# Altium schematic symbol library General_Lib.SchLib: 23 symbols
Pins are listed as number, name and electrical type; pins without a type are passive.

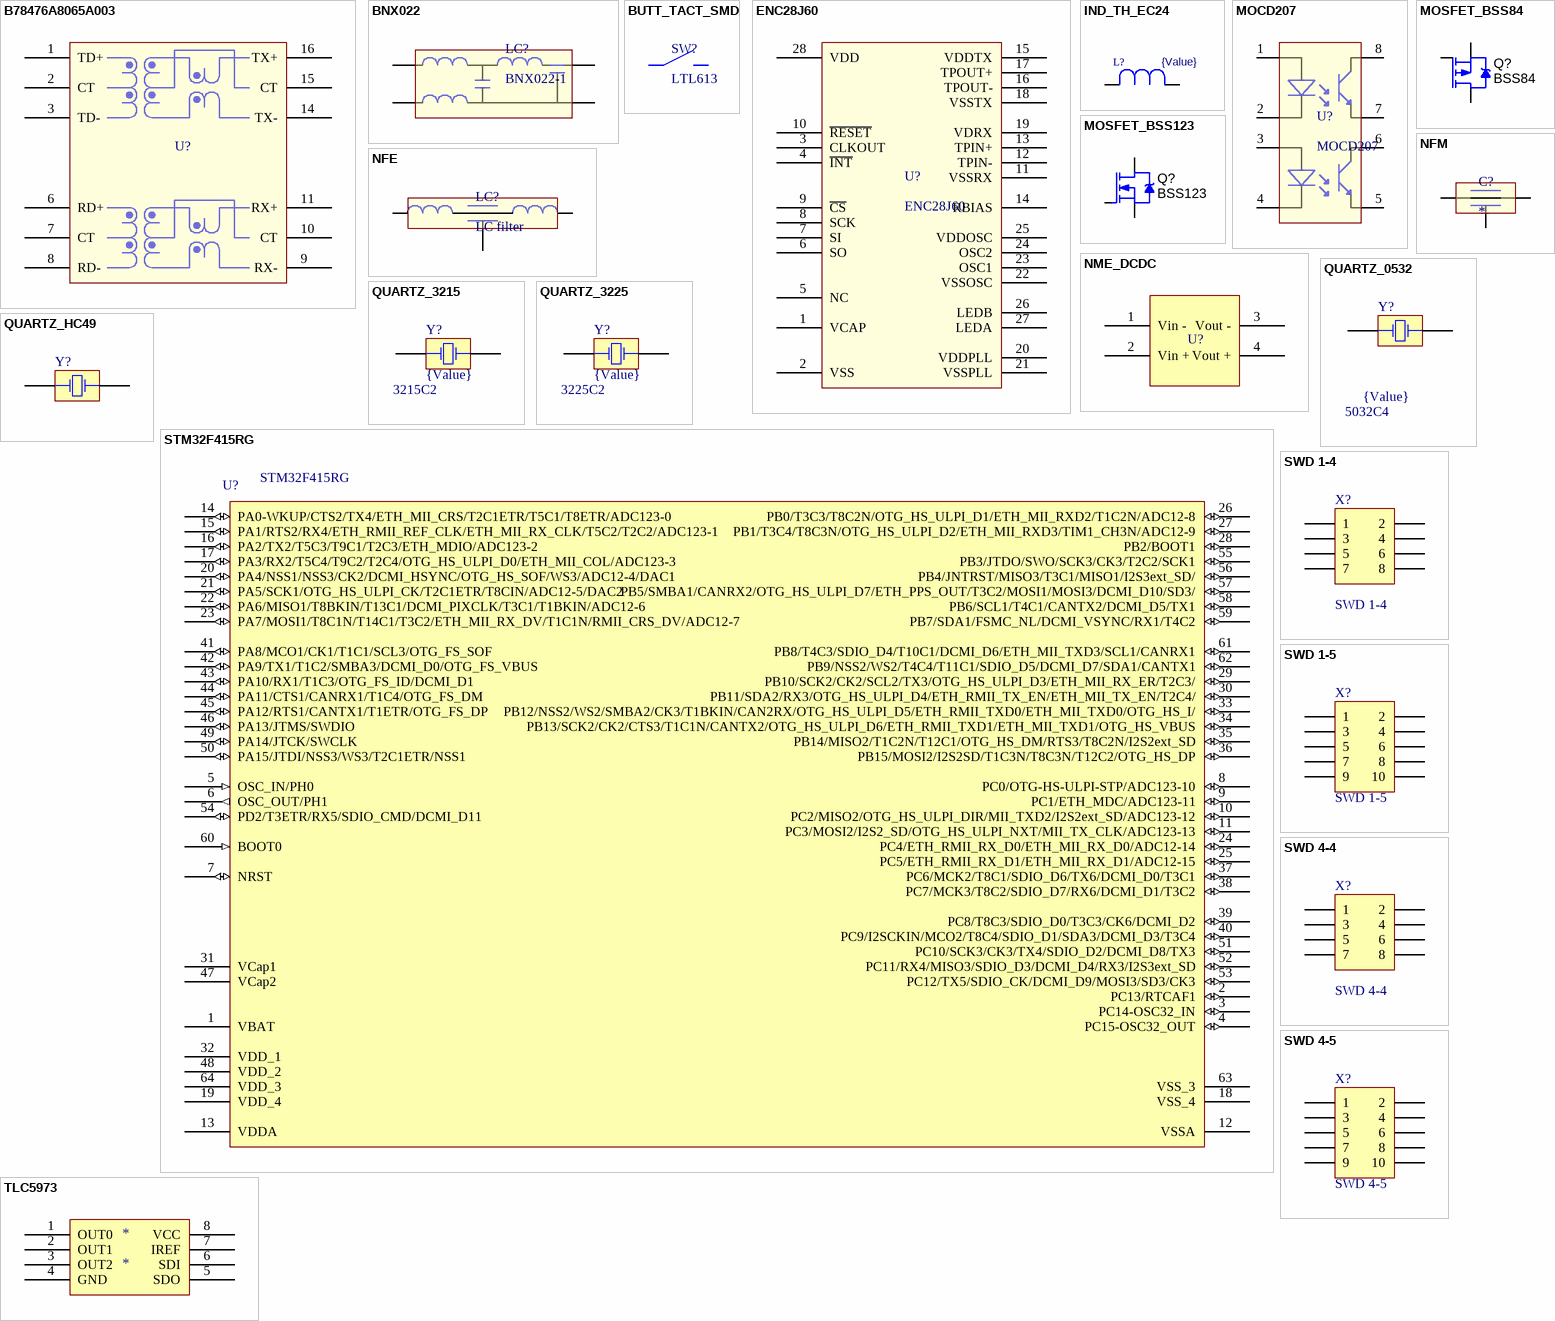
[diagram p0: symbols B78476A8065A003 to TLC5973]

## B78476A8065A003
designator U?  (value not drawn)
10/100 Base-T magnetics module 350uH, 1500V, 1:1
pins: 1 TD+, 2 CT, 3 TD-, 6 RD+, 7 CT, 8 RD-, 9 RX-, 10 CT, 11 RX+, 14 TX-, 15 CT, 16 TX+

## BNX022
designator LC?, comment BNX022-1
footprint BNX022/023
pins: 1 B, 2 CB, 3 PSG, 4 CG

## BUTT_TACT_SMD
designator SW?, comment LTL613
Tact button
footprint TS-1143S (6.5x6.5mm SMD tact switch 4.3mm stem)
footprint TS-1150S (6.5x6.5mm SMD tact switch 5.0mm stem)
footprint TS-1170S (6.5x6.5mm SMD tact switch 7.0mm stem)
footprint TD02EB (6x3.5mm SMD tact switch 2.5mm stem)
pins: 0, 1

## ENC28J60
designator U?
Microschip Stand-Alone Ethernet Controller with SPI Interface
pins: 1 VCAP, 2 VSS, 3 CLKOUT, 4 ~{INT}, 5 NC, 6 SO, 7 SI, 8 SCK, 9 ~{CS}, 10 ~{RESET}, 11 VSSRX, 12 TPIN-, 13 TPIN+, 14 RBIAS, 15 VDDTX, 16 TPOUT-, 17 TPOUT+, 18 VSSTX, 19 VDRX, 20 VDDPLL, 21 VSSPLL, 22 VSSOSC, 23 OSC1, 24 OSC2, 25 VDDOSC, 26 LEDB, 27 LEDA, 28 VDD

## IND_TH_EC24
designator L?, comment {Value}
Inductor through hole; Value: {Value}
footprint EC24_lay
pins: 1, 2

## MOCD207
designator U?
Dual Channel Optoisolator
pins: 1 A, 2 K, 3 A, 4 K, 5 E, 6 C, 7 E, 8 C

## MOSFET_BSS84
designator Q?, comment BSS84
MOSFET SMD P-CH 50V 130mA SOT23-3
footprint SOT23-3 (SOT23, 3 pin)
pins: 1 G, 2 S, 3 D

## MOSFET_BSS123
designator Q?, comment BSS123
MOSFET SMD N-CH 100V 170mA SOT23-3
footprint SOT23-3 (SOT23, 3 pin)
pins: 1 G, 2 S, 3 D

## NFE
designator LC?, comment LC filter
footprint NFE (Chip LC 3-Leads, Body 3,20x1,60mm, IPC Medium Density)
pins: 1, 2, 3

## NFM
designator C?
3-way murata capacitor
footprint NFM21/NFM41/NFM3D (Chip Capacitor, 3-Leads, Body 2,00x1,25mm, IPC Medium Density)
pins: 1 IN, 2 OUT, 3 GND

## NME_DCDC
designator U?, comment NME 5V & 12V Series  (value not drawn)
Isolated 1W Single Output DC/DC Converters
footprint NME_SIP
pins: 1 Vin -, 2 Vin +, 3 Vout -, 4 Vout +

## QUARTZ_0532
designator Y?, comment Case: 5032C4  (hidden comment: {Value})
Crystal Oscillator; Value: {Value}
footprint SMD05032C4 (Surface Mount Quartz Generator; Body 5.0 x 3.2 mm)
pins: 1 OSC1, 3 OSC2

## QUARTZ_3215
designator Y?, comment Case: 3215C2  (hidden comment: {Value})
Crystal Oscillator; Value: {Value}
footprint SMD03215C2 (Surface Mount Quartz Generator; Body 3.2 x 1.5 mm)
pins: 0 OSC1, 1 OSC2

## QUARTZ_3225
designator Y?, comment Case: 3225C2  (hidden comment: {Value})
Crystal Oscillator; Value: {Value}
footprint SMD03225C4 (Surface Mount Quartz Generator; Body 3.2 x 2.5 mm)
pins: 0 OSC1, 1 OSC2

## QUARTZ_HC49
designator Y?
Crystal Oscillator
footprint CRYSTAL_HC49 (SMD Crystal HC49/US-SM package)
pins: 1 OSC1, 2 OSC2

## STM32F415RG
designator U?
Our STM32 Display IC
footprint LQFP64 (Thin QFP, 64-Leads, Body 10x10mm, Pitch 0.5mm, IPC Low Density)
pins: 1 VBAT (power), 2 PC13/RTCAF1 (io), 3 PC14-OSC32_IN (io), 4 PC15-OSC32_OUT (io), 5 OSC_IN/PH0 (in), 6 OSC_OUT/PH1 (out), 7 NRST (io), 8 PC0/OTG-HS-ULPI-STP/ADC123-10 (io), 9 PC1/ETH_MDC/ADC123-11 (io), 10 PC2/MISO2/OTG_HS_ULPI_DIR/MII_TXD2/I2S2ext_SD/ADC123-12 (io), 11 PC3/MOSI2/I2S2_SD/OTG_HS_ULPI_NXT/MII_TX_CLK/ADC123-13 (io), 12 VSSA (power), 13 VDDA (power), 14 PA0-WKUP/CTS2/TX4/ETH_MII_CRS/T2C1ETR/T5C1/T8ETR/ADC123-0 (io), 15 PA1/RTS2/RX4/ETH_RMII_REF_CLK/ETH_MII_RX_CLK/T5C2/T2C2/ADC123-1 (io), 16 PA2/TX2/T5C3/T9C1/T2C3/ETH_MDIO/ADC123-2 (io), 17 PA3/RX2/T5C4/T9C2/T2C4/OTG_HS_ULPI_D0/ETH_MII_COL/ADC123-3 (io), 18 VSS_4 (power), 19 VDD_4 (power), 20 PA4/NSS1/NSS3/CK2/DCMI_HSYNC/OTG_HS_SOF/WS3/ADC12-4/DAC1 (io), 21 PA5/SCK1/OTG_HS_ULPI_CK/T2C1ETR/T8CIN/ADC12-5/DAC2 (io), 22 PA6/MISO1/T8BKIN/T13C1/DCMI_PIXCLK/T3C1/T1BKIN/ADC12-6 (io), 23 PA7/MOSI1/T8C1N/T14C1/T3C2/ETH_MII_RX_DV/T1C1N/RMII_CRS_DV/ADC12-7 (io), 24 PC4/ETH_RMII_RX_D0/ETH_MII_RX_D0/ADC12-14 (io), 25 PC5/ETH_RMII_RX_D1/ETH_MII_RX_D1/ADC12-15 (io), 26 PB0/T3C3/T8C2N/OTG_HS_ULPI_D1/ETH_MII_RXD2/T1C2N/ADC12-8 (io), 27 PB1/T3C4/T8C3N/OTG_HS_ULPI_D2/ETH_MII_RXD3/TIM1_CH3N/ADC12-9 (io), 28 PB2/BOOT1 (io), 29 PB10/SCK2/CK2/SCL2/TX3/OTG_HS_ULPI_D3/ETH_MII_RX_ER/T2C3/ (io), 30 PB11/SDA2/RX3/OTG_HS_ULPI_D4/ETH_RMII_TX_EN/ETH_MII_TX_EN/T2C4/ (io), 31 VCap1 (power), 32 VDD_1 (power), 33 PB12/NSS2/WS2/SMBA2/CK3/T1BKIN/CAN2RX/OTG_HS_ULPI_D5/ETH_RMII_TXD0/ETH_MII_TXD0/OTG_HS_I/ (io), 34 PB13/SCK2/CK2/CTS3/T1C1N/CANTX2/OTG_HS_ULPI_D6/ETH_RMII_TXD1/ETH_MII_TXD1/OTG_HS_VBUS (io), 35 PB14/MISO2/T1C2N/T12C1/OTG_HS_DM/RTS3/T8C2N/I2S2ext_SD (io), 36 PB15/MOSI2/I2S2SD/T1C3N/T8C3N/T12C2/OTG_HS_DP (io), 37 PC6/MCK2/T8C1/SDIO_D6/TX6/DCMI_D0/T3C1 (io), 38 PC7/MCK3/T8C2/SDIO_D7/RX6/DCMI_D1/T3C2 (io), 39 PC8/T8C3/SDIO_D0/T3C3/CK6/DCMI_D2 (io), 40 PC9/I2SCKIN/MCO2/T8C4/SDIO_D1/SDA3/DCMI_D3/T3C4 (io), 41 PA8/MCO1/CK1/T1C1/SCL3/OTG_FS_SOF (io), 42 PA9/TX1/T1C2/SMBA3/DCMI_D0/OTG_FS_VBUS (io), 43 PA10/RX1/T1C3/OTG_FS_ID/DCMI_D1 (io), 44 PA11/CTS1/CANRX1/T1C4/OTG_FS_DM (io), 45 PA12/RTS1/CANTX1/T1ETR/OTG_FS_DP (io), 46 PA13/JTMS/SWDIO (io), 47 VCap2 (power), 48 VDD_2 (power), 49 PA14/JTCK/SWCLK (io), 50 PA15/JTDI/NSS3/WS3/T2C1ETR/NSS1 (io), 51 PC10/SCK3/CK3/TX4/SDIO_D2/DCMI_D8/TX3 (io), 52 PC11/RX4/MISO3/SDIO_D3/DCMI_D4/RX3/I2S3ext_SD (io), 53 PC12/TX5/SDIO_CK/DCMI_D9/MOSI3/SD3/CK3 (io), 54 PD2/T3ETR/RX5/SDIO_CMD/DCMI_D11 (io), 55 PB3/JTDO/SWO/SCK3/CK3/T2C2/SCK1 (io), 56 PB4/JNTRST/MISO3/T3C1/MISO1/I2S3ext_SD/ (io), 57 PB5/SMBA1/CANRX2/OTG_HS_ULPI_D7/ETH_PPS_OUT/T3C2/MOSI1/MOSI3/DCMI_D10/SD3/ (io), 58 PB6/SCL1/T4C1/CANTX2/DCMI_D5/TX1 (io), 59 PB7/SDA1/FSMC_NL/DCMI_VSYNC/RX1/T4C2 (io), 60 BOOT0 (in), 61 PB8/T4C3/SDIO_D4/T10C1/DCMI_D6/ETH_MII_TXD3/SCL1/CANRX1 (io), 62 PB9/NSS2/WS2/T4C4/T11C1/SDIO_D5/DCMI_D7/SDA1/CANTX1 (io), 63 VSS_3 (power), 64 VDD_3 (power)

## SWD 1-4
designator X?
4-way DIP switch
footprint SWD 1-4
pins: 1, 2, 3, 4, 5, 6, 7, 8

## SWD 1-5
designator X?
5-way DIP switch
footprint SWD 1-5
pins: 1, 2, 3, 4, 5, 6, 7, 8, 9, 10

## SWD 4-4
designator X?
4-way SMT DIP switch
footprint SWD 4-4
pins: 1, 2, 3, 4, 5, 6, 7, 8

## SWD 4-5
designator X?
5-way SMT DIP switch
footprint SWD 4-5
pins: 1, 2, 3, 4, 5, 6, 7, 8, 9, 10

## TLC5973
designator *
pins: 1 OUT0, 2 OUT1, 3 OUT2, 4 GND, 5 SDO, 6 SDI, 7 IREF, 8 VCC

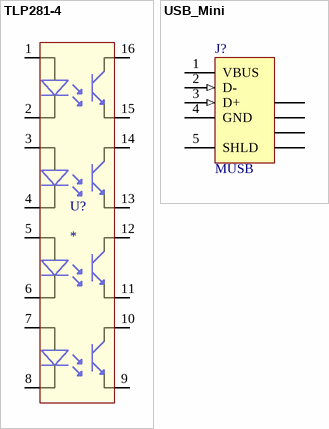
[diagram p1: symbols TLP281-4 to USB_Mini]

## TLP281-4
designator U?
Quad Channel Optoisolator
footprint SOP127P700X210-16N (Footprint not found)
pins: 1 A, 2 K, 3 A, 4 K, 5 A, 6 K, 7 A, 8 K, 9 E, 10 C, 11 E, 12 C, 13 E, 14 C, 15 E, 16 C

## USB_Mini
designator J?, comment MUSB
mini USB
footprint USB_Micro-B_FCI_SMD
footprint USB_Micro-B_Molex_SMD
footprint USB_Micro-B_SMD (Connector; USB2.0, Type B, SM; 5 Position; Right Angle)
pins: 1 VBUS (power) "Power", 2 D- (in) "-DATA", 3 D+ (in) "+DATA", 4 GND (power) "Ground", 5 SHLD "Shield", 6 SHLD "Shield", 7 SHLD "Shield", 8 SHLD "Shield", 9 SHLD "Shield"